# Altium integrated library NXP Semiconductors Sensors.IntLib: 94 symbols (part 2 of 4)
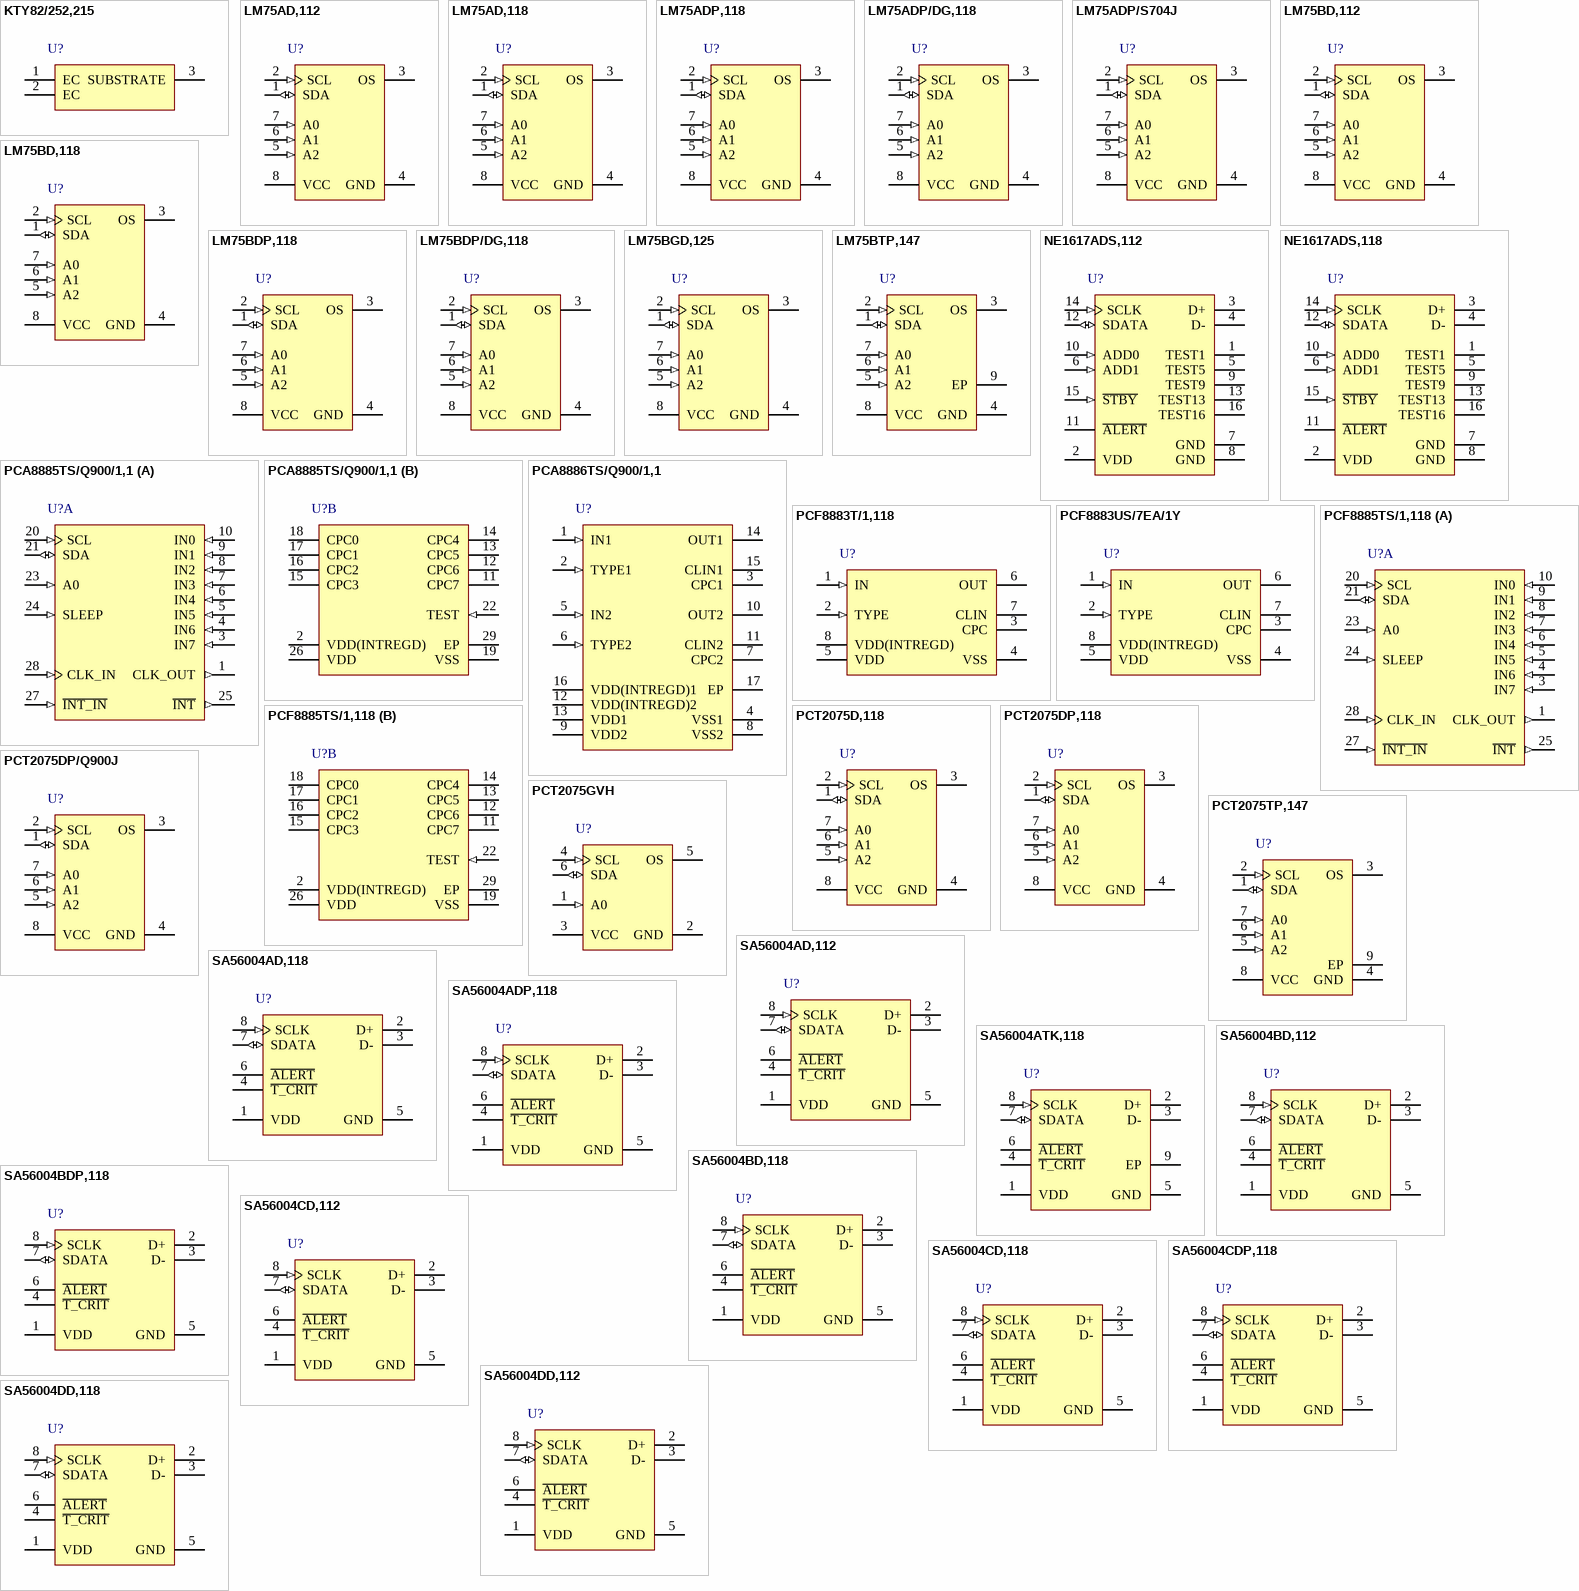
[diagram p3: symbols KTY82/252,215 to SA56004DD,118]

## KTY82/252,215
designator U?
Silicon Temperature Sensor, 2050 Ohm R25, 3477 Ohm R100, -55 to 150 degC, 3-Pin SOT23, RoHS, Tape & Reel; Manufacturer: NXP Semiconductors; PartNumber: KTY82/252,215; R100 (Ohm): 3477; R25 (Ohm): 2050; DatasheetVersion: Rev. 04; PackageVersion: 06-03-16, 03/2006; PackageReference: SOT23; PackageDescription: 3-Pin Plastic Surface Mounted Package, Body 2.9 x 1.3 mm, Pitch 0.95 mm; Supplier 1: Digi-Key; Supplier Part Number 1: KTY82/252,215-ND; Supplier 2: Mouser; Supplier Part Number 2: 771-KTY82252215; Packing: Tape & Reel; Mounting Technology: Surface Mount; Code_JEDEC: TO-236AB; ComponentLink1Description: Manufacturer URL; ComponentLink1URL: http://www.nxp.com/; ComponentLink2Description: Datasheet; ComponentLink2URL: http://www.nxp.com/documents/data_sheet/KTY82_SER.pdf; ComponentLink3Description: Package Specification; ComponentLink3URL: http://www.nxp.com/documents/outline_drawing/sot023_po.pdf
footprint NXP-SOT23_N (SOT23, 3-Leads, Body 3x1.4mm, Pitch 0.95mm, IPC Medium Density)
footprint NXP-SOT23_L (SOT23, 3-Leads, Body 3x1.4mm, Pitch 0.95mm, IPC High Density)
footprint NXP-SOT23_M (SOT23, 3-Leads, Body 3x1.4mm, Pitch 0.95mm, IPC Low Density)
pins: 1 EC "electrical contact", 2 EC "electrical contact", 3 SUBSTRATE "substrate (must remain potential free)"

## LM75AD,112
designator U?
Digital Temperature Sensor and Thermal Watchdog, 2.8 to 5.5 V Supply, -55 to 125 degC, 8-Pin SOT96-1, RoHS, Bulk; Manufacturer: NXP Semiconductors; PartNumber: LM75AD,112; Accuracy on-chip (degC): 2@-25 to 100 / 3@-55 to 125; Assignable addresses: 8; Code_IEC: 76000; DatasheetVersion: Rev. 04; PackageVersion: 03-02-18, 02/2003; PackageReference: SOT96-1; PackageDescription: 8-Pin Plastic Small Outline Package, Body 4.9 x 3.9 mm, Pitch 1.27 mm; Supplier 1: Digi-Key; Supplier Part Number 1: 568-4226-5-ND; Supplier 2: Newark; Supplier Part Number 2: 61X9582; Supplier 3: Newark; Supplier Part Number 3: 70R5569; Supplier 4: Mouser; Supplier Part Number 4: 771-LM75AD; Operating Voltage (VDC): 2.8 to 5.5; Packing: Bulk; Mounting Technology: Surface Mount; Code_JEDEC: MS-012; ComponentLink1Description: Manufacturer URL; ComponentLink1URL: http://www.nxp.com/; ComponentLink2Description: Datasheet; ComponentLink2URL: http://www.nxp.com/documents/data_sheet/LM75A.pdf; ComponentLink3Description: Package Specification; ComponentLink3URL: http://www.nxp.com/documents/outline_drawing/sot096-1_po.pdf
footprint NXP-SOT96-1_N (SOIC, 8-Leads, Body 5x4mm, Pitch 1.27mm, IPC Medium Density)
footprint NXP-SOT96-1_L (SOIC, 8-Leads, Body 5x4mm, Pitch 1.27mm, IPC High Density)
footprint NXP-SOT96-1_M (SOIC, 8-Leads, Body 5x4mm, Pitch 1.27mm, IPC Low Density)
pins: 1 SDA (io) "Digital I/O. I2C-bus serial bidirectional data line; open-drain.", 2 SCL (in) "Digital input. I2C-bus serial clock input.", 3 OS (oc) "Overtemp Shutdown output; open-drain.", 4 GND (power) "Ground. To be connected to the system ground.", 5 A2 (in) "Digital input. User-defined address bit 2.", 6 A1 (in) "Digital input. User-defined address bit 1.", 7 A0 (in) "Digital input. User-defined address bit 0.", 8 VCC (power) "Power supply."

## LM75AD,118
designator U?
Digital Temperature Sensor and Thermal Watchdog, 2.8 to 5.5 V Supply, -55 to 125 degC, 8-Pin SOT96-1, RoHS, Tape & Reel; Manufacturer: NXP Semiconductors; PartNumber: LM75AD,118; Accuracy on-chip (degC): 2@-25 to 100 / 3@-55 to 125; Assignable addresses: 8; Code_IEC: 76000; DatasheetVersion: Rev. 04; PackageVersion: 03-02-18, 02/2003; PackageReference: SOT96-1; PackageDescription: 8-Pin Plastic Small Outline Package, Body 4.9 x 3.9 mm, Pitch 1.27 mm; Supplier 1: Digi-Key; Supplier Part Number 1: 568-10295-2-ND; Supplier 2: Digi-Key; Supplier Part Number 2: 568-10295-1-ND; Supplier 3: Digi-Key; Supplier Part Number 3: 568-10295-6-ND; Supplier 4: Newark; Supplier Part Number 4: 70R5570; Supplier 5: Mouser; Supplier Part Number 5: 771-LM75AD-T; Operating Voltage (VDC): 2.8 to 5.5; Packing: Tape & Reel; Mounting Technology: Surface Mount; Code_JEDEC: MS-012; ComponentLink1Description: Manufacturer URL; ComponentLink1URL: http://www.nxp.com/; ComponentLink2Description: Datasheet; ComponentLink2URL: http://www.nxp.com/documents/data_sheet/LM75A.pdf; ComponentLink3Description: Package Specification; ComponentLink3URL: http://www.nxp.com/documents/outline_drawing/sot096-1_po.pdf
footprint NXP-SOT96-1_N (SOIC, 8-Leads, Body 5x4mm, Pitch 1.27mm, IPC Medium Density)
footprint NXP-SOT96-1_L (SOIC, 8-Leads, Body 5x4mm, Pitch 1.27mm, IPC High Density)
footprint NXP-SOT96-1_M (SOIC, 8-Leads, Body 5x4mm, Pitch 1.27mm, IPC Low Density)
pins: 1 SDA (io) "Digital I/O. I2C-bus serial bidirectional data line; open-drain.", 2 SCL (in) "Digital input. I2C-bus serial clock input.", 3 OS (oc) "Overtemp Shutdown output; open-drain.", 4 GND (power) "Ground. To be connected to the system ground.", 5 A2 (in) "Digital input. User-defined address bit 2.", 6 A1 (in) "Digital input. User-defined address bit 1.", 7 A0 (in) "Digital input. User-defined address bit 0.", 8 VCC (power) "Power supply."

## LM75ADP,118
designator U?
Digital Temperature Sensor and Thermal Watchdog, 2.8 to 5.5 V Supply, -55 to 125 degC, 8-Pin SOT505-1, RoHS, Reel; Manufacturer: NXP Semiconductors; PartNumber: LM75ADP,118; Accuracy on-chip (degC): 2@-25 to 100 / 3@-55 to 125; Assignable addresses: 8; DatasheetVersion: Rev. 04; PackageVersion: 03-02-18, 02/2003; PackageReference: SOT505-1; PackageDescription: 8-Pin Plastic Thin Shrink Small Outline Package, Body 3 x 3 mm, Pitch 0.65 mm; Supplier 1: Digi-Key; Supplier Part Number 1: 568-4227-2-ND; Supplier 2: Digi-Key; Supplier Part Number 2: 568-4227-1-ND; Supplier 3: Digi-Key; Supplier Part Number 3: 568-4227-6-ND; Supplier 4: Newark; Supplier Part Number 4: 78R6248; Supplier 5: Newark; Supplier Part Number 5: 70R5571; Supplier 6: Mouser; Supplier Part Number 6: 771-LM75ADP-T; Operating Voltage (VDC): 2.8 to 5.5; Packing: Reel; Mounting Technology: Surface Mount; ComponentLink1Description: Manufacturer URL; ComponentLink1URL: http://www.nxp.com/; ComponentLink2Description: Datasheet; ComponentLink2URL: http://www.nxp.com/documents/data_sheet/LM75A.pdf; ComponentLink3Description: Package Specification; ComponentLink3URL: http://www.nxp.com/documents/outline_drawing/sot505-1_po.pdf
footprint NXP-SOT505-1_N (TSOP, 8-Leads, Body 3.1x3.1mm, Pitch 0.65mm, IPC Medium Density)
footprint NXP-SOT505-1_L (TSOP, 8-Leads, Body 3.1x3.1mm, Pitch 0.65mm, IPC High Density)
footprint NXP-SOT505-1_M (TSOP, 8-Leads, Body 3.1x3.1mm, Pitch 0.65mm, IPC Low Density)
pins: 1 SDA (io) "Digital I/O. I2C-bus serial bidirectional data line; open-drain.", 2 SCL (in) "Digital input. I2C-bus serial clock input.", 3 OS (oc) "Overtemp Shutdown output; open-drain.", 4 GND (power) "Ground. To be connected to the system ground.", 5 A2 (in) "Digital input. User-defined address bit 2.", 6 A1 (in) "Digital input. User-defined address bit 1.", 7 A0 (in) "Digital input. User-defined address bit 0.", 8 VCC (power) "Power supply."

## LM75ADP/DG,118
designator U?
Digital Temperature Sensor and Thermal Watchdog, 2.8 to 5.5 V Supply, -55 to 125 degC, 8-Pin SOT505-1, RoHS, Reel; Manufacturer: NXP Semiconductors; PartNumber: LM75ADP/DG,118; Accuracy on-chip (degC): 2@-25 to 100 / 3@-55 to 125; Assignable addresses: 8; DatasheetVersion: Rev. 04; PackageVersion: 03-02-18, 02/2003; PackageReference: SOT505-1; PackageDescription: 8-Pin Plastic Thin Shrink Small Outline Package, Body 3 x 3 mm, Pitch 0.65 mm; Supplier 1: Digi-Key; Supplier Part Number 1: 568-8696-2-ND; Supplier 2: Digi-Key; Supplier Part Number 2: 568-8696-1-ND; Supplier 3: Digi-Key; Supplier Part Number 3: 568-8696-6-ND; Supplier 4: Mouser; Supplier Part Number 4: 771-LM75ADP/DG118; Operating Voltage (VDC): 2.8 to 5.5; Packing: Reel; Mounting Technology: Surface Mount; ComponentLink1Description: Manufacturer URL; ComponentLink1URL: http://www.nxp.com/; ComponentLink2Description: Datasheet; ComponentLink2URL: http://www.nxp.com/documents/data_sheet/LM75A.pdf; ComponentLink3Description: Package Specification; ComponentLink3URL: http://www.nxp.com/documents/outline_drawing/sot505-1_po.pdf
footprint NXP-SOT505-1_N (TSOP, 8-Leads, Body 3.1x3.1mm, Pitch 0.65mm, IPC Medium Density)
footprint NXP-SOT505-1_L (TSOP, 8-Leads, Body 3.1x3.1mm, Pitch 0.65mm, IPC High Density)
footprint NXP-SOT505-1_M (TSOP, 8-Leads, Body 3.1x3.1mm, Pitch 0.65mm, IPC Low Density)
pins: 1 SDA (io) "Digital I/O. I2C-bus serial bidirectional data line; open-drain.", 2 SCL (in) "Digital input. I2C-bus serial clock input.", 3 OS (oc) "Overtemp Shutdown output; open-drain.", 4 GND (power) "Ground. To be connected to the system ground.", 5 A2 (in) "Digital input. User-defined address bit 2.", 6 A1 (in) "Digital input. User-defined address bit 1.", 7 A0 (in) "Digital input. User-defined address bit 0.", 8 VCC (power) "Power supply."

## LM75ADP/S704J
designator U?
Digital Temperature Sensor and Thermal Watchdog, 2.8 to 5.5 V Supply, -55 to 125 degC, 8-Pin SOT505-1, RoHS, Reel; Manufacturer: NXP Semiconductors; PartNumber: LM75ADP/S704J; Accuracy on-chip (degC): 2@-25 to 100 / 3@-55 to 125; Assignable addresses: 8; DatasheetVersion: Rev. 04; PackageVersion: 03-02-18, 02/2003; PackageReference: SOT505-1; PackageDescription: 8-Pin Plastic Thin Shrink Small Outline Package, Body 3 x 3 mm, Pitch 0.65 mm; Supplier 1: Mouser; Supplier Part Number 1: N/A; Operating Voltage (VDC): 2.8 to 5.5; Packing: Reel; Mounting Technology: Surface Mount; ComponentLink1Description: Manufacturer URL; ComponentLink1URL: http://www.nxp.com/; ComponentLink2Description: Datasheet; ComponentLink2URL: http://www.nxp.com/documents/data_sheet/LM75A.pdf; ComponentLink3Description: Package Specification; ComponentLink3URL: http://www.nxp.com/documents/outline_drawing/sot505-1_po.pdf
footprint NXP-SOT505-1_N (TSOP, 8-Leads, Body 3.1x3.1mm, Pitch 0.65mm, IPC Medium Density)
footprint NXP-SOT505-1_L (TSOP, 8-Leads, Body 3.1x3.1mm, Pitch 0.65mm, IPC High Density)
footprint NXP-SOT505-1_M (TSOP, 8-Leads, Body 3.1x3.1mm, Pitch 0.65mm, IPC Low Density)
pins: 1 SDA (io) "Digital I/O. I2C-bus serial bidirectional data line; open-drain.", 2 SCL (in) "Digital input. I2C-bus serial clock input.", 3 OS (oc) "Overtemp Shutdown output; open-drain.", 4 GND (power) "Ground. To be connected to the system ground.", 5 A2 (in) "Digital input. User-defined address bit 2.", 6 A1 (in) "Digital input. User-defined address bit 1.", 7 A0 (in) "Digital input. User-defined address bit 0.", 8 VCC (power) "Power supply."

## LM75BD,112
designator U?
Digital Temperature Sensor and Thermal Watchdog, 2.8 to 5.5 V Supply, -55 to 125 degC, 8-Pin SOT96-1, RoHS, Tube, Bulk; Manufacturer: NXP Semiconductors; PartNumber: LM75BD,112; Accuracy on-chip (degC): 2@-25 to 100 / 3@-55 to 125; Assignable addresses: 8; SMBus clock (kHz): 400; Code_IEC: 76000; DatasheetVersion: Rev. 5; PackageVersion: 03-02-18, 02/2003; PackageReference: SOT96-1; PackageDescription: 8-Pin Plastic Small Outline Package, Body 4.9 x 3.9 mm, Pitch 1.27 mm; Supplier 1: Digi-Key; Supplier Part Number 1: 568-10323-5-ND; Supplier 2: Newark; Supplier Part Number 2: 70R5572; Supplier 3: Mouser; Supplier Part Number 3: 771-LM75BD,112; Operating Voltage (VDC): 2.8 to 5.5; Packing: Tube, Bulk; Mounting Technology: Surface Mount; Code_JEDEC: MS-012; ComponentLink1Description: Manufacturer URL; ComponentLink1URL: http://www.nxp.com/; ComponentLink2Description: Datasheet; ComponentLink2URL: http://www.nxp.com/documents/data_sheet/LM75B.pdf; ComponentLink3Description: Package Specification; ComponentLink3URL: http://www.nxp.com/documents/outline_drawing/sot096-1_po.pdf
footprint NXP-SOT96-1_N (SOIC, 8-Leads, Body 5x4mm, Pitch 1.27mm, IPC Medium Density)
footprint NXP-SOT96-1_L (SOIC, 8-Leads, Body 5x4mm, Pitch 1.27mm, IPC High Density)
footprint NXP-SOT96-1_M (SOIC, 8-Leads, Body 5x4mm, Pitch 1.27mm, IPC Low Density)
pins: 1 SDA (io) "Digital I/O. I2C-bus serial bidirectional data line; open-drain.", 2 SCL (in) "Digital input. I2C-bus serial clock input.", 3 OS (oc) "Overtemp Shutdown output; open-drain.", 4 GND (power) "Ground. To be connected to the system ground.", 5 A2 (in) "Digital input. User-defined address bit 2.", 6 A1 (in) "Digital input. User-defined address bit 1.", 7 A0 (in) "Digital input. User-defined address bit 0.", 8 VCC (power) "Power supply."

## LM75BD,118
designator U?
Digital Temperature Sensor and Thermal Watchdog, 2.8 to 5.5 V Supply, -55 to 125 degC, 8-Pin SOT96-1, RoHS, Reel; Manufacturer: NXP Semiconductors; PartNumber: LM75BD,118; Accuracy on-chip (degC): 2@-25 to 100 / 3@-55 to 125; Assignable addresses: 8; SMBus clock (kHz): 400; Code_IEC: 76000; DatasheetVersion: Rev. 5; PackageVersion: 03-02-18, 02/2003; PackageReference: SOT96-1; PackageDescription: 8-Pin Plastic Small Outline Package, Body 4.9 x 3.9 mm, Pitch 1.27 mm; Supplier 1: Digi-Key; Supplier Part Number 1: 568-4688-2-ND; Supplier 2: Digi-Key; Supplier Part Number 2: 568-4688-1-ND; Supplier 3: Digi-Key; Supplier Part Number 3: 568-4688-6-ND; Supplier 4: Newark; Supplier Part Number 4: 70R5573; Supplier 5: Mouser; Supplier Part Number 5: 771-LM75BD118; Operating Voltage (VDC): 2.8 to 5.5; Packing: Reel; Mounting Technology: Surface Mount; Code_JEDEC: MS-012; ComponentLink1Description: Manufacturer URL; ComponentLink1URL: http://www.nxp.com/; ComponentLink2Description: Datasheet; ComponentLink2URL: http://www.nxp.com/documents/data_sheet/LM75B.pdf; ComponentLink3Description: Package Specification; ComponentLink3URL: http://www.nxp.com/documents/outline_drawing/sot096-1_po.pdf
footprint NXP-SOT96-1_N (SOIC, 8-Leads, Body 5x4mm, Pitch 1.27mm, IPC Medium Density)
footprint NXP-SOT96-1_L (SOIC, 8-Leads, Body 5x4mm, Pitch 1.27mm, IPC High Density)
footprint NXP-SOT96-1_M (SOIC, 8-Leads, Body 5x4mm, Pitch 1.27mm, IPC Low Density)
pins: 1 SDA (io) "Digital I/O. I2C-bus serial bidirectional data line; open-drain.", 2 SCL (in) "Digital input. I2C-bus serial clock input.", 3 OS (oc) "Overtemp Shutdown output; open-drain.", 4 GND (power) "Ground. To be connected to the system ground.", 5 A2 (in) "Digital input. User-defined address bit 2.", 6 A1 (in) "Digital input. User-defined address bit 1.", 7 A0 (in) "Digital input. User-defined address bit 0.", 8 VCC (power) "Power supply."

## LM75BDP,118
designator U?
Digital Temperature Sensor and Thermal Watchdog, 2.8 to 5.5 V Supply, -55 to 125 degC, 8-Pin SOT505-1, RoHS, Reel; Manufacturer: NXP Semiconductors; PartNumber: LM75BDP,118; Accuracy on-chip (degC): 2@-25 to 100 / 3@-55 to 125; Assignable addresses: 8; SMBus clock (kHz): 400; DatasheetVersion: Rev. 5; PackageVersion: 03-02-18, 02/2003; PackageReference: SOT505-1; PackageDescription: 8-Pin Plastic Thin Shrink Small Outline Package, Body 3 x 3 mm, Pitch 0.65 mm; Supplier 1: Digi-Key; Supplier Part Number 1: 568-4768-2-ND; Supplier 2: Digi-Key; Supplier Part Number 2: 568-4768-1-ND; Supplier 3: Digi-Key; Supplier Part Number 3: 568-4768-6-ND; Supplier 4: Newark; Supplier Part Number 4: 29T3855; Supplier 5: Newark; Supplier Part Number 5: 70R5574; Supplier 6: Mouser; Supplier Part Number 6: 771-LM75BDP; Operating Voltage (VDC): 2.8 to 5.5; Packing: Reel; Mounting Technology: Surface Mount; ComponentLink1Description: Manufacturer URL; ComponentLink1URL: http://www.nxp.com/; ComponentLink2Description: Datasheet; ComponentLink2URL: http://www.nxp.com/documents/data_sheet/LM75B.pdf; ComponentLink3Description: Package Specification; ComponentLink3URL: http://www.nxp.com/documents/outline_drawing/sot505-1_po.pdf
footprint NXP-SOT505-1_N (TSOP, 8-Leads, Body 3.1x3.1mm, Pitch 0.65mm, IPC Medium Density)
footprint NXP-SOT505-1_L (TSOP, 8-Leads, Body 3.1x3.1mm, Pitch 0.65mm, IPC High Density)
footprint NXP-SOT505-1_M (TSOP, 8-Leads, Body 3.1x3.1mm, Pitch 0.65mm, IPC Low Density)
pins: 1 SDA (io) "Digital I/O. I2C-bus serial bidirectional data line; open-drain.", 2 SCL (in) "Digital input. I2C-bus serial clock input.", 3 OS (oc) "Overtemp Shutdown output; open-drain.", 4 GND (power) "Ground. To be connected to the system ground.", 5 A2 (in) "Digital input. User-defined address bit 2.", 6 A1 (in) "Digital input. User-defined address bit 1.", 7 A0 (in) "Digital input. User-defined address bit 0.", 8 VCC (power) "Power supply."

## LM75BDP/DG,118
designator U?
Digital Temperature Sensor and Thermal Watchdog, 2.8 to 5.5 V Supply, -55 to 125 degC, 8-Pin SOT505-1, RoHS, Reel; Manufacturer: NXP Semiconductors; PartNumber: LM75BDP/DG,118; Accuracy on-chip (degC): 2@-25 to 100 / 3@-55 to 125; Assignable addresses: 8; SMBus clock (kHz): 400; DatasheetVersion: Rev. 5; PackageVersion: 03-02-18, 02/2003; PackageReference: SOT505-1; PackageDescription: 8-Pin Plastic Thin Shrink Small Outline Package, Body 3 x 3 mm, Pitch 0.65 mm; Supplier 1: Digi-Key; Supplier Part Number 1: 568-8697-2-ND; Supplier 2: Digi-Key; Supplier Part Number 2: 568-8697-1-ND; Supplier 3: Digi-Key; Supplier Part Number 3: 568-8697-6-ND; Supplier 4: Mouser; Supplier Part Number 4: 771-LM75BDP/DG118; Operating Voltage (VDC): 2.8 to 5.5; Packing: Reel; Mounting Technology: Surface Mount; ComponentLink1Description: Manufacturer URL; ComponentLink1URL: http://www.nxp.com/; ComponentLink2Description: Datasheet; ComponentLink2URL: http://www.nxp.com/documents/data_sheet/LM75B.pdf; ComponentLink3Description: Package Specification; ComponentLink3URL: http://www.nxp.com/documents/outline_drawing/sot505-1_po.pdf
footprint NXP-SOT505-1_N (TSOP, 8-Leads, Body 3.1x3.1mm, Pitch 0.65mm, IPC Medium Density)
footprint NXP-SOT505-1_L (TSOP, 8-Leads, Body 3.1x3.1mm, Pitch 0.65mm, IPC High Density)
footprint NXP-SOT505-1_M (TSOP, 8-Leads, Body 3.1x3.1mm, Pitch 0.65mm, IPC Low Density)
pins: 1 SDA (io) "Digital I/O. I2C-bus serial bidirectional data line; open-drain.", 2 SCL (in) "Digital input. I2C-bus serial clock input.", 3 OS (oc) "Overtemp Shutdown output; open-drain.", 4 GND (power) "Ground. To be connected to the system ground.", 5 A2 (in) "Digital input. User-defined address bit 2.", 6 A1 (in) "Digital input. User-defined address bit 1.", 7 A0 (in) "Digital input. User-defined address bit 0.", 8 VCC (power) "Power supply."

## LM75BGD,125
designator U?
Digital Temperature Sensor and Thermal Watchdog, 2.8 to 5.5 V Supply, -55 to 125 degC, 8-Pin SOT996-2, RoHS, Reel; Manufacturer: NXP Semiconductors; PartNumber: LM75BGD,125; Accuracy on-chip (degC): 2@-25 to 100 / 3@-55 to 125; Assignable addresses: 8; SMBus clock (kHz): 400; DatasheetVersion: Rev. 5; PackageVersion: 12-11-20, 11/2012; PackageReference: SOT996-2; PackageDescription: 8-Pin Plastic Extremely Thin Small Outline Package, No Leads, Body 2 x 3 mm, Pitch 0.5 mm; Supplier 1: Digi-Key; Supplier Part Number 1: 568-4769-2-ND; Supplier 2: Digi-Key; Supplier Part Number 2: 568-4769-1-ND; Supplier 3: Digi-Key; Supplier Part Number 3: 568-4769-6-ND; Supplier 4: Newark; Supplier Part Number 4: 70R5575; Supplier 5: Mouser; Supplier Part Number 5: 771-LM75BGD; Operating Voltage (VDC): 2.8 to 5.5; Packing: Reel; Mounting Technology: Surface Mount; ComponentLink1Description: Manufacturer URL; ComponentLink1URL: http://www.nxp.com/; ComponentLink2Description: Datasheet; ComponentLink2URL: http://www.nxp.com/documents/data_sheet/LM75B.pdf; ComponentLink3Description: Package Specification; ComponentLink3URL: http://www.nxp.com/documents/outline_drawing/sot996-2_po.pdf
footprint NXP-SOT996-2_N (PSON, 8-Leads, Body 2.1x3.1mm, Pitch 0.5mm, IPC Medium Density)
footprint NXP-SOT996-2_L (PSON, 8-Leads, Body 2.1x3.1mm, Pitch 0.5mm, IPC High Density)
footprint NXP-SOT996-2_M (PSON, 8-Leads, Body 2.1x3.1mm, Pitch 0.5mm, IPC Low Density)
pins: 1 SDA (io) "Digital I/O. I2C-bus serial bidirectional data line; open-drain.", 2 SCL (in) "Digital input. I2C-bus serial clock input.", 3 OS (oc) "Overtemp Shutdown output; open-drain.", 4 GND (power) "Ground. To be connected to the system ground.", 5 A2 (in) "Digital input. User-defined address bit 2.", 6 A1 (in) "Digital input. User-defined address bit 1.", 7 A0 (in) "Digital input. User-defined address bit 0.", 8 VCC (power) "Power supply."

## LM75BTP,147
designator U?
Digital Temperature Sensor and Thermal Watchdog, 2.8 to 5.5 V Supply, -55 to 125 degC, 8-Pin SOT1069-2, RoHS, Reel; Manufacturer: NXP Semiconductors; PartNumber: LM75BTP,147; Accuracy on-chip (degC): 2@-25 to 100 / 3@-55 to 125; Assignable addresses: 8; SMBus clock (kHz): 400; DatasheetVersion: Rev. 5; PackageVersion: 12-04-18, 04/2012; PackageReference: SOT1069-2; PackageDescription: 8-Pin Plastic Thermal Enhanced Very Very Thin Small Outline Package, No Leads, Body 2 x 3 mm, Pitch 0.5 mm, Thermal Pad 1.5 x 1.5 mm; Supplier 1: Digi-Key; Supplier Part Number 1: 568-9815-2-ND; Supplier 2: Digi-Key; Supplier Part Number 2: 568-9815-1-ND; Supplier 3: Digi-Key; Supplier Part Number 3: 568-9815-6-ND; Supplier 4: Mouser; Supplier Part Number 4: 771-LM75BTP147; Operating Voltage (VDC): 2.8 to 5.5; Packing: Reel; Mounting Technology: Surface Mount; Code_JEDEC: MO-229; ComponentLink1Description: Manufacturer URL; ComponentLink1URL: http://www.nxp.com/; ComponentLink2Description: Datasheet; ComponentLink2URL: http://www.nxp.com/documents/data_sheet/LM75B.pdf; ComponentLink3Description: Package Specification; ComponentLink3URL: http://www.nxp.com/documents/outline_drawing/sot1069-2_po.pdf
footprint NXP-SOT1069-2_N (PSON, 8-Leads, Body 2.1x3.1mm, Pitch 0.5mm, Thermal Pad 1.5x1.5mm, IPC Medium Density)
footprint NXP-SOT1069-2_L (PSON, 8-Leads, Body 2.1x3.1mm, Pitch 0.5mm, Thermal Pad 1.5x1.5mm, IPC High Density)
footprint NXP-SOT1069-2_M (PSON, 8-Leads, Body 2.1x3.1mm, Pitch 0.5mm, Thermal Pad 1.5x1.5mm, IPC Low Density)
pins: 1 SDA (io) "Digital I/O. I2C-bus serial bidirectional data line; open-drain.", 2 SCL (in) "Digital input. I2C-bus serial clock input.", 3 OS (oc) "Overtemperature Shutdown output; open-drain.", 4 GND (power) "Ground. To be connected to the system ground.", 5 A2 (in) "Digital input. User-defined address bit 2.", 6 A1 (in) "Digital input. User-defined address bit 1.", 7 A0 (in) "Digital input. User-defined address bit 0.", 8 VCC (power) "Power supply.", 9 EP

## NE1617ADS,112
designator U?
Temperature Monitor for Microprocessor Systems, 3.0 to 5.5 V Supply, -55 to 125 degC, 16-Pin SOT519-1, RoHS, Bulk; Manufacturer: NXP Semiconductors; PartNumber: NE1617ADS,112; Accuracy on-chip (degC): 2@60 to 100 / 3@-40 to 125; Accuracy remote (degC): 3@60 to 100 / 5@-40 to 125; Assignable addresses: 9; SMBus clock (kHz): 100; Standby current (uA): 3; DatasheetVersion: Rev. 5; PackageVersion: 03-02-18, 02/2003; PackageReference: SOT519-1; PackageDescription: 16-Pin Plastic Shrink Small Outline Package, Body 4.9 x 3.9 mm, Pitch 0.635 mm; Supplier 1: Digi-Key; Supplier Part Number 1: NE1617ADS,112-ND; Supplier 2: Newark; Supplier Part Number 2: 70R5786; Supplier 3: Mouser; Supplier Part Number 3: 771-NE1617ADS112; Operating Voltage (VDC): 3.0 to 5.5; Packing: Bulk; Mounting Technology: Surface Mount; ComponentLink1Description: Manufacturer URL; ComponentLink1URL: http://www.nxp.com/; ComponentLink2Description: Datasheet; ComponentLink2URL: http://www.nxp.com/documents/data_sheet/NE1617A.pdf; ComponentLink3Description: Package Specification; ComponentLink3URL: http://www.nxp.com/documents/outline_drawing/sot519-1_po.pdf
footprint NXP-SOT519-1_N (SOP, 16-Leads, Body 5x4mm, Pitch 0.635mm, IPC Medium Density)
footprint NXP-SOT519-1_L (SOP, 16-Leads, Body 5x4mm, Pitch 0.635mm, IPC High Density)
footprint NXP-SOT519-1_M (SOP, 16-Leads, Body 5x4mm, Pitch 0.635mm, IPC Low Density)
pins: 1 TEST1 "test pin; factory use only", 2 VDD (power) "positive supply", 3 D+ "positive side of remote sensor", 4 D- "negative side of remote sensor", 5 TEST5 "test pin; factory use only", 6 ADD1 (in) "device address 1 (3-state)", 7 GND (power) "ground", 8 GND (power) "ground", 9 TEST9 "test pin; factory use only", 10 ADD0 (in) "device address 0 (3-state)", 11 ~{ALERT} (oc) "open-drain output used as interrupt or SMBus alert", 12 SDATA (io) "SMBus serial data input/output; open-drain", 13 TEST13 "test pin; factory use only", 14 SCLK (in) "SMBus clock input", 15 ~{STBY} (in) "hardware standby input", 16 TEST16 "test pin; factory use only"

## NE1617ADS,118
designator U?
Temperature Monitor for Microprocessor Systems, 3.0 to 5.5 V Supply, -55 to 125 degC, 16-Pin SOT519-1, RoHS, Reel; Manufacturer: NXP Semiconductors; PartNumber: NE1617ADS,118; Accuracy on-chip (degC): 2@60 to 100 / 3@-40 to 125; Accuracy remote (degC): 3@60 to 100 / 5@-40 to 125; Assignable addresses: 9; SMBus clock (kHz): 100; Standby current (uA): 3; DatasheetVersion: Rev. 5; PackageVersion: 03-02-18, 02/2003; PackageReference: SOT519-1; PackageDescription: 16-Pin Plastic Shrink Small Outline Package, Body 4.9 x 3.9 mm, Pitch 0.635 mm; Supplier 1: Digi-Key; Supplier Part Number 1: 568-4512-2-ND; Supplier 2: Digi-Key; Supplier Part Number 2: 568-4512-1-ND; Supplier 3: Digi-Key; Supplier Part Number 3: 568-4512-6-ND; Supplier 4: Newark; Supplier Part Number 4: 70R5787; Supplier 5: Mouser; Supplier Part Number 5: 771-NE1617ADS-T; Operating Voltage (VDC): 3.0 to 5.5; Packing: Reel; Mounting Technology: Surface Mount; ComponentLink1Description: Manufacturer URL; ComponentLink1URL: http://www.nxp.com/; ComponentLink2Description: Datasheet; ComponentLink2URL: http://www.nxp.com/documents/data_sheet/NE1617A.pdf; ComponentLink3Description: Package Specification; ComponentLink3URL: http://www.nxp.com/documents/outline_drawing/sot519-1_po.pdf
footprint NXP-SOT519-1_N (SOP, 16-Leads, Body 5x4mm, Pitch 0.635mm, IPC Medium Density)
footprint NXP-SOT519-1_L (SOP, 16-Leads, Body 5x4mm, Pitch 0.635mm, IPC High Density)
footprint NXP-SOT519-1_M (SOP, 16-Leads, Body 5x4mm, Pitch 0.635mm, IPC Low Density)
pins: 1 TEST1 "test pin; factory use only", 2 VDD (power) "positive supply", 3 D+ "positive side of remote sensor", 4 D- "negative side of remote sensor", 5 TEST5 "test pin; factory use only", 6 ADD1 (in) "device address 1 (3-state)", 7 GND (power) "ground", 8 GND (power) "ground", 9 TEST9 "test pin; factory use only", 10 ADD0 (in) "device address 0 (3-state)", 11 ~{ALERT} (oc) "open-drain output used as interrupt or SMBus alert", 12 SDATA (io) "SMBus serial data input/output; open-drain", 13 TEST13 "test pin; factory use only", 14 SCLK (in) "SMBus clock input", 15 ~{STBY} (in) "hardware standby input", 16 TEST16 "test pin; factory use only"

## PCA8885TS/Q900/1,1
designator U?
Capacitive 8-Channel Touch and Proximity Sensor with Auto-Calibration and Very Low Power Consumption, 2.5 to 5.5 V Supply, -40 to 85 degC, 28-Pin TSSOP28, RoHS, Tape & Reel; Manufacturer: NXP Semiconductors; PartNumber: PCA8885TS/Q900/1,1; DatasheetVersion: Rev. 4; PackageVersion: 12-08-06, 08/2012; PackageReference: TSSOP28; PackageDescription: 28-Pin Plastic Small Outline Package, Body 9.7 x 4.4 mm, Pitch 0.65 mm, Thermal Pad 5.08 x 2.997 mm; Supplier 1: Digi-Key; Supplier Part Number 1: PCA8885TS/Q900/1,1-ND; Supplier 2: Mouser; Supplier Part Number 2: 771-PCA8885TS/Q900/1; Packing: Tape & Reel; Voltage operating range (V): 2.5 to 5.5; Mounting Technology: Surface Mount; Code_JEDEC: MO-153 ISSUE C; ComponentLink1Description: Manufacturer URL; ComponentLink1URL: http://www.nxp.com/; ComponentLink2Description: Datasheet; ComponentLink2URL: http://www.nxp.com/documents/data_sheet/PCA8885.pdf; ComponentLink3Description: Package Specification; ComponentLink3URL: http://www.nxp.com/documents/data_sheet/PCA8885.pdf
footprint NXP-TSSOP28_N (SOP, 28-Leads, Body 9.8x4.5mm, Pitch 0.65mm, Thermal Pad 5.08x2.997mm, IPC Medium Density)
footprint NXP-TSSOP28_L (SOP, 28-Leads, Body 9.8x4.5mm, Pitch 0.65mm, Thermal Pad 5.08x2.997mm, IPC High Density)
footprint NXP-TSSOP28_M (SOP, 28-Leads, Body 9.8x4.5mm, Pitch 0.65mm, Thermal Pad 5.08x2.997mm, IPC Low Density)
part A pins: 1 CLK_OUT (out) "clock output for chip cascading and synchronization", 3 IN7 (in) "sensor input, channel 7", 4 IN6 (in) "sensor input, channel 6", 5 IN5 (in) "sensor input, channel 5", 6 IN4 (in) "sensor input, channel 4", 7 IN3 (in) "sensor input, channel 3", 8 IN2 (in) "sensor input, channel 2", 9 IN1 (in) "sensor input, channel 1", 10 IN0 (in) "sensor input, channel 0", 20 SCL (in) "serial clock line", 21 SDA (io) "serial data line", 23 A0 (in) "I2C subaddress LSB", 24 SLEEP (in) "sleep mode; connect to VDD to force the circuit into low-power sleep mode", 25 ~{INT} (out) "interrupt output", 27 ~{INT_IN} (in) "interrupt input for chip cascading; connect to VDD if not used", 28 CLK_IN (in) "clock input; for the secondary chip when the primary chip provides the clock signal"
part B pins: 2 VDD(INTREGD) (power) "internal regulated supply reference voltage", 11 CPC7 "reservoir capacitor, channel 7", 12 CPC6 "reservoir capacitor, channel 6", 13 CPC5 "reservoir capacitor, channel 5", 14 CPC4 "reservoir capacitor, channel 4", 15 CPC3 "reservoir capacitor, channel 3", 16 CPC2 "reservoir capacitor, channel 2", 17 CPC1 "reservoir capacitor, channel 1", 18 CPC0 "reservoir capacitor, channel 0", 19 VSS (power) "ground supply voltage", 22 TEST (in) "test pin; must be connected to VSS", 26 VDD (power) "supply voltage", 29 EP (power) "The die paddle (exposed pad) is connected to VSS and should be electrically isolated."

## PCA8886TS/Q900/1,1
designator U?
Dual Channel Capacitive Proximity Switch with Auto-Calibration and Large Voltage Operating Range, 3 to 9 V Supply, -40 to 85 degC, 16-Pin TSSOP16, RoHS, Tape & Reel; Manufacturer: NXP Semiconductors; PartNumber: PCA8886TS/Q900/1,1; Voltage operating range (V): 3 to 9; DatasheetVersion: Rev. 3; PackageVersion: 12-09-04, 09/2012; PackageReference: TSSOP16; PackageDescription: 16-Pin Plastic Small Outline Package, Body 5 x 4.4 mm, Pitch 0.65 mm, Thermal Pad 2.997 x 2.997 mm; Supplier 1: Digi-Key; Supplier Part Number 1: PCA8886TS/Q900/1,1-ND; Supplier 2: Newark; Supplier Part Number 2: 90T8745; Supplier 3: Mouser; Supplier Part Number 3: 771-PCA8886TS/Q900/1; Packing: Tape & Reel; Mounting Technology: Surface Mount; Code_JEDEC: MO-153 ISSUE C; ComponentLink1Description: Manufacturer URL; ComponentLink1URL: http://www.nxp.com/; ComponentLink2Description: Datasheet; ComponentLink2URL: http://www.nxp.com/documents/data_sheet/PCA8886.pdf; ComponentLink3Description: Package Specification; ComponentLink3URL: http://www.nxp.com/documents/data_sheet/PCA8886.pdf
footprint NXP-TSSOP16_N (TSSOP, 16-Leads, Body 5.1x4.5mm, Pitch 0.65mm, Thermal Pad 2.997x2.997mm, IPC Medium Density)
footprint NXP-TSSOP16_L (TSSOP, 16-Leads, Body 5.1x4.5mm, Pitch 0.65mm, Thermal Pad 2.997x2.997mm, IPC High Density)
footprint NXP-TSSOP16_M (TSSOP, 16-Leads, Body 5.1x4.5mm, Pitch 0.65mm, Thermal Pad 2.997x2.997mm, IPC Low Density)
pins: 1 IN1 (in) "sensor input 1", 2 TYPE1 (in) "select output configuration of pin OUT1", 3 CPC1 "sensitivity setting 1", 4 VSS1 (power) "ground supply voltage 1", 5 IN2 (in) "sensor input 2", 6 TYPE2 (in) "select output configuration of pin OUT2", 7 CPC2 "sensitivity setting 2", 8 VSS2 (power) "ground supply voltage 2", 9 VDD2 (power) "supply voltage 2", 10 OUT2 (oc) "switch output 2", 11 CLIN2 "sampling rate setting 2", 12 VDD(INTREGD)2 (power) "internal regulated supply voltage output 2", 13 VDD1 (power) "supply voltage 1", 14 OUT1 (oc) "switch output 1", 15 CLIN1 "sampling rate setting 1", 16 VDD(INTREGD)1 (power) "internal regulated supply voltage output 1", 17 EP

## PCF8883T/1,118
designator U?
Capacitive Touch / Proximity Switch with Auto-Calibration, Large Voltage Operating Range, and Very Low Power Consumption, 3 to 9 V Supply, -40 to 85 degC, 8-Pin SOIC8, RoHS, Tape & Reel; Manufacturer: NXP Semiconductors; PartNumber: PCF8883T/1,118; Voltage operating range (V): 3 to 9; DatasheetVersion: Rev. 4; PackageVersion: 11-11-04, 11/2011; PackageReference: SOIC8; PackageDescription: 8-Pin Plastic Small Outline Package, Body 4.9 x 3.905 mm, Pitch 1.27 mm; Supplier 1: Digi-Key; Supplier Part Number 1: 568-4933-2-ND; Supplier 2: Digi-Key; Supplier Part Number 2: 568-4933-1-ND; Supplier 3: Digi-Key; Supplier Part Number 3: 568-4933-6-ND; Supplier 4: Newark; Supplier Part Number 4: 70R6922; Supplier 5: Mouser; Supplier Part Number 5: 771-PCF8883T1,118; Packing: Tape & Reel; Mounting Technology: Surface Mount; Code_JEDEC: MS-012-AA; ComponentLink1Description: Manufacturer URL; ComponentLink1URL: http://www.nxp.com/; ComponentLink2Description: Datasheet; ComponentLink2URL: http://www.nxp.com/documents/data_sheet/PCF8883.pdf; ComponentLink3Description: Package Specification; ComponentLink3URL: http://www.nxp.com/documents/data_sheet/PCF8883.pdf
footprint NXP-SOIC8_N (SOIC, 8-Leads, Body 5x4mm, Pitch 1.27mm, IPC Medium Density)
footprint NXP-SOIC8_L (SOIC, 8-Leads, Body 5x4mm, Pitch 1.27mm, IPC High Density)
footprint NXP-SOIC8_M (SOIC, 8-Leads, Body 5x4mm, Pitch 1.27mm, IPC Low Density)
pins: 1 IN (in) "sensor input", 2 TYPE (in) "pin OUT behavior configuration input", 3 CPC "sensitivity setting", 4 VSS (power) "ground supply voltage", 5 VDD (power) "supply voltage", 6 OUT (oc) "switch output", 7 CLIN "sampling rate setting", 8 VDD(INTREGD) (power) "internal regulated supply voltage output"

## PCF8883US/7EA/1Y
designator U?
Capacitive Touch / Proximity Switch with Auto-Calibration, Large Voltage Operating Range, and Very Low Power Consumption, 3 to 9 V Supply, -40 to 85 degC, 8-Pin WLCSP8, RoHS, Tape & Reel; Manufacturer: NXP Semiconductors; PartNumber: PCF8883US/7EA/1Y; Packing: Dry, Tape & Reel; Voltage operating range (V): 3 to 9; DatasheetVersion: Rev. 4; PackageVersion: 13-07-16, 07/2013; PackageReference: WLCSP8; PackageDescription: 8-Ball Wafer Level Chip-Size Package, Body 1.16 x 0.86 mm; Supplier 1: Digi-Key; Supplier Part Number 1: PCF8883US/7EA/1Y-ND; Supplier 2: Newark; Supplier Part Number 2: 70W0178; Supplier 3: Mouser; Supplier Part Number 3: 771-PCF8883US/7EA/1Y; Mounting Technology: Surface Mount; ComponentLink1Description: Manufacturer URL; ComponentLink1URL: http://www.nxp.com/; ComponentLink2Description: Datasheet; ComponentLink2URL: http://www.nxp.com/documents/data_sheet/PCF8883.pdf; ComponentLink3Description: Package Specification; ComponentLink3URL: http://www.nxp.com/documents/data_sheet/PCF8883.pdf
footprint NXP-WLCSP8_V (BGA, 8-Balls, Body 1.16x0.86mm)
pins: 1 IN (in) "sensor input", 2 TYPE (in) "pin OUT behavior configuration input", 3 CPC "sensitivity setting", 4 VSS (power) "ground supply voltage", 5 VDD (power) "supply voltage", 6 OUT (oc) "switch output", 7 CLIN "sampling rate setting", 8 VDD(INTREGD) (power) "internal regulated supply voltage output"

## PCF8885TS/1,118
designator U?
Capacitive 8-Channel Touch and Proximity Sensor with Auto-Calibration and Very Low Power Consumption, 2.5 to 5.5 V Supply, -40 to 85 degC, 28-Pin TSSOP28, RoHS, Tape & Reel; Manufacturer: NXP Semiconductors; PartNumber: PCF8885TS/1,118; DatasheetVersion: Rev. 3; PackageVersion: 12-08-06, 08/2012; PackageReference: TSSOP28; PackageDescription: 28-Pin Plastic Small Outline Package, Body 9.7 x 4.4 mm, Pitch 0.65 mm, Thermal Pad 5.08 x 2.997 mm; Supplier 1: Digi-Key; Supplier Part Number 1: 568-9470-2-ND; Supplier 2: Digi-Key; Supplier Part Number 2: 568-9470-1-ND; Supplier 3: Digi-Key; Supplier Part Number 3: 568-9470-6-ND; Supplier 4: Newark; Supplier Part Number 4: 90T8760; Supplier 5: Mouser; Supplier Part Number 5: 771-PCF8885TS1; Packing: Tape & Reel; Voltage operating range (V): 2.5 to 5.5; Mounting Technology: Surface Mount; Code_JEDEC: MO-153 ISSUE C; ComponentLink1Description: Manufacturer URL; ComponentLink1URL: http://www.nxp.com/; ComponentLink2Description: Datasheet; ComponentLink2URL: http://www.nxp.com/documents/data_sheet/PCF8885.pdf; ComponentLink3Description: Package Specification; ComponentLink3URL: http://www.nxp.com/documents/data_sheet/PCA8885.pdf
footprint NXP-TSSOP28_N (SOP, 28-Leads, Body 9.8x4.5mm, Pitch 0.65mm, Thermal Pad 5.08x2.997mm, IPC Medium Density)
footprint NXP-TSSOP28_L (SOP, 28-Leads, Body 9.8x4.5mm, Pitch 0.65mm, Thermal Pad 5.08x2.997mm, IPC High Density)
footprint NXP-TSSOP28_M (SOP, 28-Leads, Body 9.8x4.5mm, Pitch 0.65mm, Thermal Pad 5.08x2.997mm, IPC Low Density)
part A pins: 1 CLK_OUT (out) "clock output for chip cascading and synchronization", 3 IN7 (in) "sensor input, channel 7", 4 IN6 (in) "sensor input, channel 6", 5 IN5 (in) "sensor input, channel 5", 6 IN4 (in) "sensor input, channel 4", 7 IN3 (in) "sensor input, channel 3", 8 IN2 (in) "sensor input, channel 2", 9 IN1 (in) "sensor input, channel 1", 10 IN0 (in) "sensor input, channel 0", 20 SCL (in) "serial clock line", 21 SDA (io) "serial data line", 23 A0 (in) "I2C subaddress LSB", 24 SLEEP (in) "sleep mode; connect to VDD to force the circuit into low-power sleep mode", 25 ~{INT} (out) "interrupt output", 27 ~{INT_IN} (in) "interrupt input for chip cascading; connect to VDD if not used", 28 CLK_IN (in) "clock input; for the secondary chip when the primary chip provides the clock signal"
part B pins: 2 VDD(INTREGD) (power) "internal regulated supply reference voltage", 11 CPC7 "reservoir capacitor, channel 7", 12 CPC6 "reservoir capacitor, channel 6", 13 CPC5 "reservoir capacitor, channel 5", 14 CPC4 "reservoir capacitor, channel 4", 15 CPC3 "reservoir capacitor, channel 3", 16 CPC2 "reservoir capacitor, channel 2", 17 CPC1 "reservoir capacitor, channel 1", 18 CPC0 "reservoir capacitor, channel 0", 19 VSS (power) "ground supply voltage", 22 TEST (in) "test pin; must be connected to VSS", 26 VDD (power) "supply voltage", 29 EP (power) "The die paddle (exposed pad) is connected to VSS and should be electrically isolated."

## PCT2075D,118
designator U?
I2C-Bus Fm+, 1 Degree C Accuracy, Digital Temperature Sensor and Thermal Watchdog, 2.7 to 5.5 V Supply, -55 to 125 degC, 8-Pin SOT96-1, RoHS, Reel; Manufacturer: NXP Semiconductors; PartNumber: PCT2075D,118; Accuracy on-chip (degC): 1@-25 to 100 / 2@-55 to 125; Assignable addresses: 27; SMBus clock (kHz): 1000; Code_IEC: 76000; DatasheetVersion: Rev. 7; PackageVersion: 03-02-18, 02/2003; PackageReference: SOT96-1; PackageDescription: 8-Pin Plastic Small Outline Package, Body 4.9 x 3.9 mm, Pitch 1.27 mm; Supplier 1: Digi-Key; Supplier Part Number 1: 568-10219-2-ND; Supplier 2: Digi-Key; Supplier Part Number 2: 568-10219-1-ND; Supplier 3: Digi-Key; Supplier Part Number 3: 568-10219-6-ND; Supplier 4: Newark; Supplier Part Number 4: 61X9864; Supplier 5: Newark; Supplier Part Number 5: 70W0181; Supplier 6: Mouser; Supplier Part Number 6: 771-PCT2075D118; Operating Voltage (VDC): 2.7 to 5.5; Packing: Reel; Mounting Technology: Surface Mount; Code_JEDEC: MS-012; ComponentLink1Description: Manufacturer URL; ComponentLink1URL: http://www.nxp.com/; ComponentLink2Description: Datasheet; ComponentLink2URL: http://www.nxp.com/documents/data_sheet/PCT2075.pdf; ComponentLink3Description: Package Specification; ComponentLink3URL: http://www.nxp.com/documents/outline_drawing/sot096-1_po.pdf
footprint NXP-SOT96-1_N (SOIC, 8-Leads, Body 5x4mm, Pitch 1.27mm, IPC Medium Density)
footprint NXP-SOT96-1_L (SOIC, 8-Leads, Body 5x4mm, Pitch 1.27mm, IPC High Density)
footprint NXP-SOT96-1_M (SOIC, 8-Leads, Body 5x4mm, Pitch 1.27mm, IPC Low Density)
pins: 1 SDA (io) "Digital I/O. I2C-bus serial bidirectional data line; open-drain.", 2 SCL (in) "Digital input. I2C-bus serial clock input.", 3 OS (oc) "Overtemp Shutdown output; open-drain.", 4 GND (power) "Ground. To be connected to the system ground.", 5 A2 (in) "Digital input. User-defined address bit 2.", 6 A1 (in) "Digital input. User-defined address bit 1.", 7 A0 (in) "Digital input. User-defined address bit 0.", 8 VCC (power) "Power supply."

## PCT2075DP,118
designator U?
I2C-Bus Fm+, 1 Degree C Accuracy, Digital Temperature Sensor and Thermal Watchdog, 2.7 to 5.5 V Supply, -55 to 125 degC, 8-Pin SOT505-1, RoHS, Reel; Manufacturer: NXP Semiconductors; PartNumber: PCT2075DP,118; Accuracy on-chip (degC): 1@-25 to 100 / 2@-55 to 125; Assignable addresses: 27; SMBus clock (kHz): 1000; DatasheetVersion: Rev. 7; PackageVersion: 03-02-18, 02/2003; PackageReference: SOT505-1; PackageDescription: 8-Pin Plastic Thin Shrink Small Outline Package, Body 3 x 3 mm, Pitch 0.65 mm; Supplier 1: Digi-Key; Supplier Part Number 1: 568-10956-2-ND; Supplier 2: Digi-Key; Supplier Part Number 2: 568-10956-1-ND; Supplier 3: Digi-Key; Supplier Part Number 3: 568-10956-6-ND; Supplier 4: Newark; Supplier Part Number 4: 61X9865; Supplier 5: Newark; Supplier Part Number 5: 08X6745; Supplier 6: Mouser; Supplier Part Number 6: N/A; Operating Voltage (VDC): 2.7 to 5.5; Packing: Reel; Mounting Technology: Surface Mount; ComponentLink1Description: Manufacturer URL; ComponentLink1URL: http://www.nxp.com/; ComponentLink2Description: Datasheet; ComponentLink2URL: http://www.nxp.com/documents/data_sheet/PCT2075.pdf; ComponentLink3Description: Package Specification; ComponentLink3URL: http://www.nxp.com/documents/outline_drawing/sot505-1_po.pdf
footprint NXP-SOT505-1_N (TSOP, 8-Leads, Body 3.1x3.1mm, Pitch 0.65mm, IPC Medium Density)
footprint NXP-SOT505-1_L (TSOP, 8-Leads, Body 3.1x3.1mm, Pitch 0.65mm, IPC High Density)
footprint NXP-SOT505-1_M (TSOP, 8-Leads, Body 3.1x3.1mm, Pitch 0.65mm, IPC Low Density)
pins: 1 SDA (io) "Digital I/O. I2C-bus serial bidirectional data line; open-drain.", 2 SCL (in) "Digital input. I2C-bus serial clock input.", 3 OS (oc) "Overtemp Shutdown output; open-drain.", 4 GND (power) "Ground. To be connected to the system ground.", 5 A2 (in) "Digital input. User-defined address bit 2.", 6 A1 (in) "Digital input. User-defined address bit 1.", 7 A0 (in) "Digital input. User-defined address bit 0.", 8 VCC (power) "Power supply."

## PCT2075DP/Q900J
designator U?
I2C-Bus Fm+, 1 Degree C Accuracy, Digital Temperature Sensor and Thermal Watchdog, 2.7 to 5.5 V Supply, -55 to 125 degC, 8-Pin SOT505-1, RoHS, Reel; Manufacturer: NXP Semiconductors; PartNumber: PCT2075DP/Q900J; Accuracy on-chip (degC): 1@-25 to 100 / 2@-55 to 125; Assignable addresses: 27; SMBus clock (kHz): 1000; DatasheetVersion: Rev. 7; PackageVersion: 03-02-18, 02/2003; PackageReference: SOT505-1; PackageDescription: 8-Pin Plastic Thin Shrink Small Outline Package, Body 3 x 3 mm, Pitch 0.65 mm; Operating Voltage (VDC): 2.7 to 5.5; Packing: Reel; Mounting Technology: Surface Mount; ComponentLink1Description: Manufacturer URL; ComponentLink1URL: http://www.nxp.com/; ComponentLink2Description: Datasheet; ComponentLink2URL: http://www.nxp.com/documents/data_sheet/PCT2075.pdf; ComponentLink3Description: Package Specification; ComponentLink3URL: http://www.nxp.com/documents/outline_drawing/sot505-1_po.pdf
footprint NXP-SOT505-1_N (TSOP, 8-Leads, Body 3.1x3.1mm, Pitch 0.65mm, IPC Medium Density)
footprint NXP-SOT505-1_L (TSOP, 8-Leads, Body 3.1x3.1mm, Pitch 0.65mm, IPC High Density)
footprint NXP-SOT505-1_M (TSOP, 8-Leads, Body 3.1x3.1mm, Pitch 0.65mm, IPC Low Density)
pins: 1 SDA (io) "Digital I/O. I2C-bus serial bidirectional data line; open-drain.", 2 SCL (in) "Digital input. I2C-bus serial clock input.", 3 OS (oc) "Overtemp Shutdown output; open-drain.", 4 GND (power) "Ground. To be connected to the system ground.", 5 A2 (in) "Digital input. User-defined address bit 2.", 6 A1 (in) "Digital input. User-defined address bit 1.", 7 A0 (in) "Digital input. User-defined address bit 0.", 8 VCC (power) "Power supply."

## PCT2075GVH
designator U?
I2C-Bus Fm+, 1 Degree C Accuracy, Digital Temperature Sensor and Thermal Watchdog, 2.7 to 5.5 V Supply, -55 to 125 degC, 6-Pin SOT1351-1, RoHS, Reel; Manufacturer: NXP Semiconductors; PartNumber: PCT2075GVH; Accuracy on-chip (degC): 1@-25 to 100 / 2@-55 to 125; Assignable addresses: 27; SMBus clock (kHz): 1000; DatasheetVersion: Rev. 7; PackageVersion: 13-04-18, 04/2013; PackageReference: SOT1353-1; PackageDescription: 6-Pin Plastic Thin Small Outline Package, Body 2.9 x 1.5 mm, Pitch 0.95 mm; Supplier 1: Digi-Key; Supplier Part Number 1: PCT2075GVH-ND; Supplier 2: Newark; Supplier Part Number 2: 46X5729; Supplier 3: Mouser; Supplier Part Number 3: N/A; Operating Voltage (VDC): 2.7 to 5.5; Packing: Reel; Mounting Technology: Surface Mount; Code_JEITA: SC-74; ComponentLink1Description: Manufacturer URL; ComponentLink1URL: http://www.nxp.com/; ComponentLink2Description: Datasheet; ComponentLink2URL: http://www.nxp.com/documents/data_sheet/PCT2075.pdf; ComponentLink3Description: Package Specification; ComponentLink3URL: http://www.nxp.com/documents/data_sheet/PCT2075.pdf
footprint NXP-SOT1353-1_N (SOP, 6-Leads, Body 3.1x1.7mm, Pitch 0.95mm, IPC Medium Density)
footprint NXP-SOT1353-1_L (SOP, 6-Leads, Body 3.1x1.7mm, Pitch 0.95mm, IPC High Density)
footprint NXP-SOT1353-1_M (SOP, 6-Leads, Body 3.1x1.7mm, Pitch 0.95mm, IPC Low Density)
pins: 1 A0 (in) "Digital input. User-defined address bit 0.", 2 GND (power) "Ground. To be connected to the system ground.", 3 VCC (power) "Power supply.", 4 SCL (in) "Digital input. I2C-bus serial clock input.", 5 OS (oc) "Overtemp Shutdown output; open-drain.", 6 SDA (io) "Digital I/O. I2C-bus serial bidirectional data line; open-drain."

## PCT2075TP,147
designator U?
I2C-Bus Fm+, 1 Degree C Accuracy, Digital Temperature Sensor and Thermal Watchdog, 2.7 to 5.5 V Supply, -55 to 125 degC, 8-Pin SOT1069-2, RoHS, Reel; Manufacturer: NXP Semiconductors; PartNumber: PCT2075TP,147; Accuracy on-chip (degC): 1@-25 to 100 / 2@-55 to 125; Assignable addresses: 27; SMBus clock (kHz): 1000; DatasheetVersion: Rev. 7; PackageVersion: 12-04-18, 04/2012; PackageReference: SOT1069-2; PackageDescription: 8-Pin Plastic Thermal Enhanced Very Very Thin Small Outline Package, No Leads, Body 2 x 3 mm, Pitch 0.5 mm, Thermal Pad 1.5 x 1.5 mm; Supplier 1: Digi-Key; Supplier Part Number 1: 568-10220-2-ND; Supplier 2: Digi-Key; Supplier Part Number 2: 568-10220-1-ND; Supplier 3: Digi-Key; Supplier Part Number 3: 568-10220-6-ND; Supplier 4: Newark; Supplier Part Number 4: 61X9866; Supplier 5: Newark; Supplier Part Number 5: 70W0182; Supplier 6: Mouser; Supplier Part Number 6: 771-PCT2075TP147; Operating Voltage (VDC): 2.7 to 5.5; Packing: Reel; Mounting Technology: Surface Mount; Code_JEDEC: MO-229; ComponentLink1Description: Manufacturer URL; ComponentLink1URL: http://www.nxp.com/; ComponentLink2Description: Datasheet; ComponentLink2URL: http://www.nxp.com/documents/data_sheet/PCT2075.pdf; ComponentLink3Description: Package Specification; ComponentLink3URL: http://www.nxp.com/documents/outline_drawing/sot1069-2_po.pdf
footprint NXP-SOT1069-2_N (PSON, 8-Leads, Body 2.1x3.1mm, Pitch 0.5mm, Thermal Pad 1.5x1.5mm, IPC Medium Density)
footprint NXP-SOT1069-2_L (PSON, 8-Leads, Body 2.1x3.1mm, Pitch 0.5mm, Thermal Pad 1.5x1.5mm, IPC High Density)
footprint NXP-SOT1069-2_M (PSON, 8-Leads, Body 2.1x3.1mm, Pitch 0.5mm, Thermal Pad 1.5x1.5mm, IPC Low Density)
pins: 1 SDA (io) "Digital I/O. I2C-bus serial bidirectional data line; open-drain.", 2 SCL (in) "Digital input. I2C-bus serial clock input.", 3 OS (oc) "Overtemp Shutdown output; open-drain.", 4 GND (power) "Ground. To be connected to the system ground.", 5 A2 (in) "Digital input. User-defined address bit 2.", 6 A1 (in) "Digital input. User-defined address bit 1.", 7 A0 (in) "Digital input. User-defined address bit 0.", 8 VCC (power) "Power supply.", 9 EP (power)

## SA56004AD,112
designator U?
SMBus-Compatible, Remote / Local Digital Temperature Sensor with Overtemperature Alarms, 3.0 to 5.5 V Supply, -40 to 125 degC, 8-Pin SOT96-1, RoHS, Tube, Bulk; Manufacturer: NXP Semiconductors; PartNumber: SA56004AD,112; Accuracy on-chip (degC): 2@60 to 100 / 3@-40 to 125; Accuracy remote (degC): 1@60 to 100 / 3@-40 to 125; Assignable addresses: 1; SMBus clock (kHz): 400; Standby current (uA): 10; Code_IEC: 76000; DatasheetVersion: Rev. 7; PackageVersion: 03-02-18, 02/2003; PackageReference: SOT96-1; PackageDescription: 8-Pin Plastic Small Outline Package, Body 4.9 x 3.9 mm, Pitch 1.27 mm; Supplier 1: Digi-Key; Supplier Part Number 1: 568-3329-5-ND; Supplier 2: Mouser; Supplier Part Number 2: 771-SA56004AD112; Operating Voltage (VDC): 3.0 to 5.5; Packing: Tube, Bulk; Mounting Technology: Surface Mount; Code_JEDEC: MS-012; ComponentLink1Description: Manufacturer URL; ComponentLink1URL: http://www.nxp.com/; ComponentLink2Description: Datasheet; ComponentLink2URL: http://www.nxp.com/documents/data_sheet/SA56004X.pdf; ComponentLink3Description: Package Specification; ComponentLink3URL: http://www.nxp.com/documents/outline_drawing/sot096-1_po.pdf
footprint NXP-SOT96-1_N (SOIC, 8-Leads, Body 5x4mm, Pitch 1.27mm, IPC Medium Density)
footprint NXP-SOT96-1_L (SOIC, 8-Leads, Body 5x4mm, Pitch 1.27mm, IPC High Density)
footprint NXP-SOT96-1_M (SOIC, 8-Leads, Body 5x4mm, Pitch 1.27mm, IPC Low Density)
pins: 1 VDD (power) "Positive supply voltage. DC voltage from 3.0 V to 5.5 V.", 2 D+ "Diode current source (anode).", 3 D- "Diode sink current (cathode).", 4 ~{T_CRIT} (oc) "T\_\C\R\I\T\ alarm is open-drain, active LOW output which requires an external pull-up resistor. It functions as a system interrupt or power shutdown.", 5 GND (power) "Power supply ground.", 6 ~{ALERT} (oc) "A\L\E\R\T\ alarm is an open-drain, active LOW output which requires an external pull-up resistor. It functions as an interrupt indicating that the temperature of the on-chip or remote diode is above or below programmed (See Datasheet)", 7 SDATA (io) "SMBus/I2C-bus bidirectional data line. This is an open-drain output which requires an external pull-up resistor.", 8 SCLK (in) "SMBus/I2C-bus clock input which requires an external pull-up resistor."